# EAGLE library part BA00DD0XX (library rohm-semi)
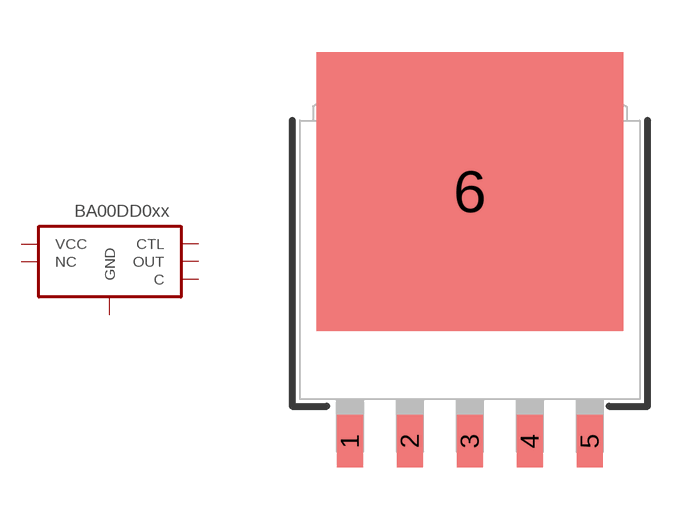
[diagram p0: symbol with the pads of HRP5; footprint HRP5]

Designator prefix -

## BA00DD0XX  [HRP5]
1  CTL
2  VCC
3  NC
4  OUT
5  C
6  GND

## Footprint HRP5 (pad centres in mm)
HRP5
smd 0.75 x 1.5: 1 -3.44,-1.2; 2 -1.72,-1.2; 3 0,-1.2; 4 1.72,-1.2; 5 3.44,-1.2
smd 8.8 x 8: 6 0,5.96